# Altium footprint library 开发板设计库封装.PcbLib: 59 footprints (part 2 of 4)
Each footprint in its own frame and in the unit in brackets; x right, y up, seen from the top. Pads: shape width x height; smd on the part's side, far side on the other; paste and mask are expansions set on the pad; w line width, h text height; cw(c..) or ccw(c..) is an arc to the next point about the centre after c.
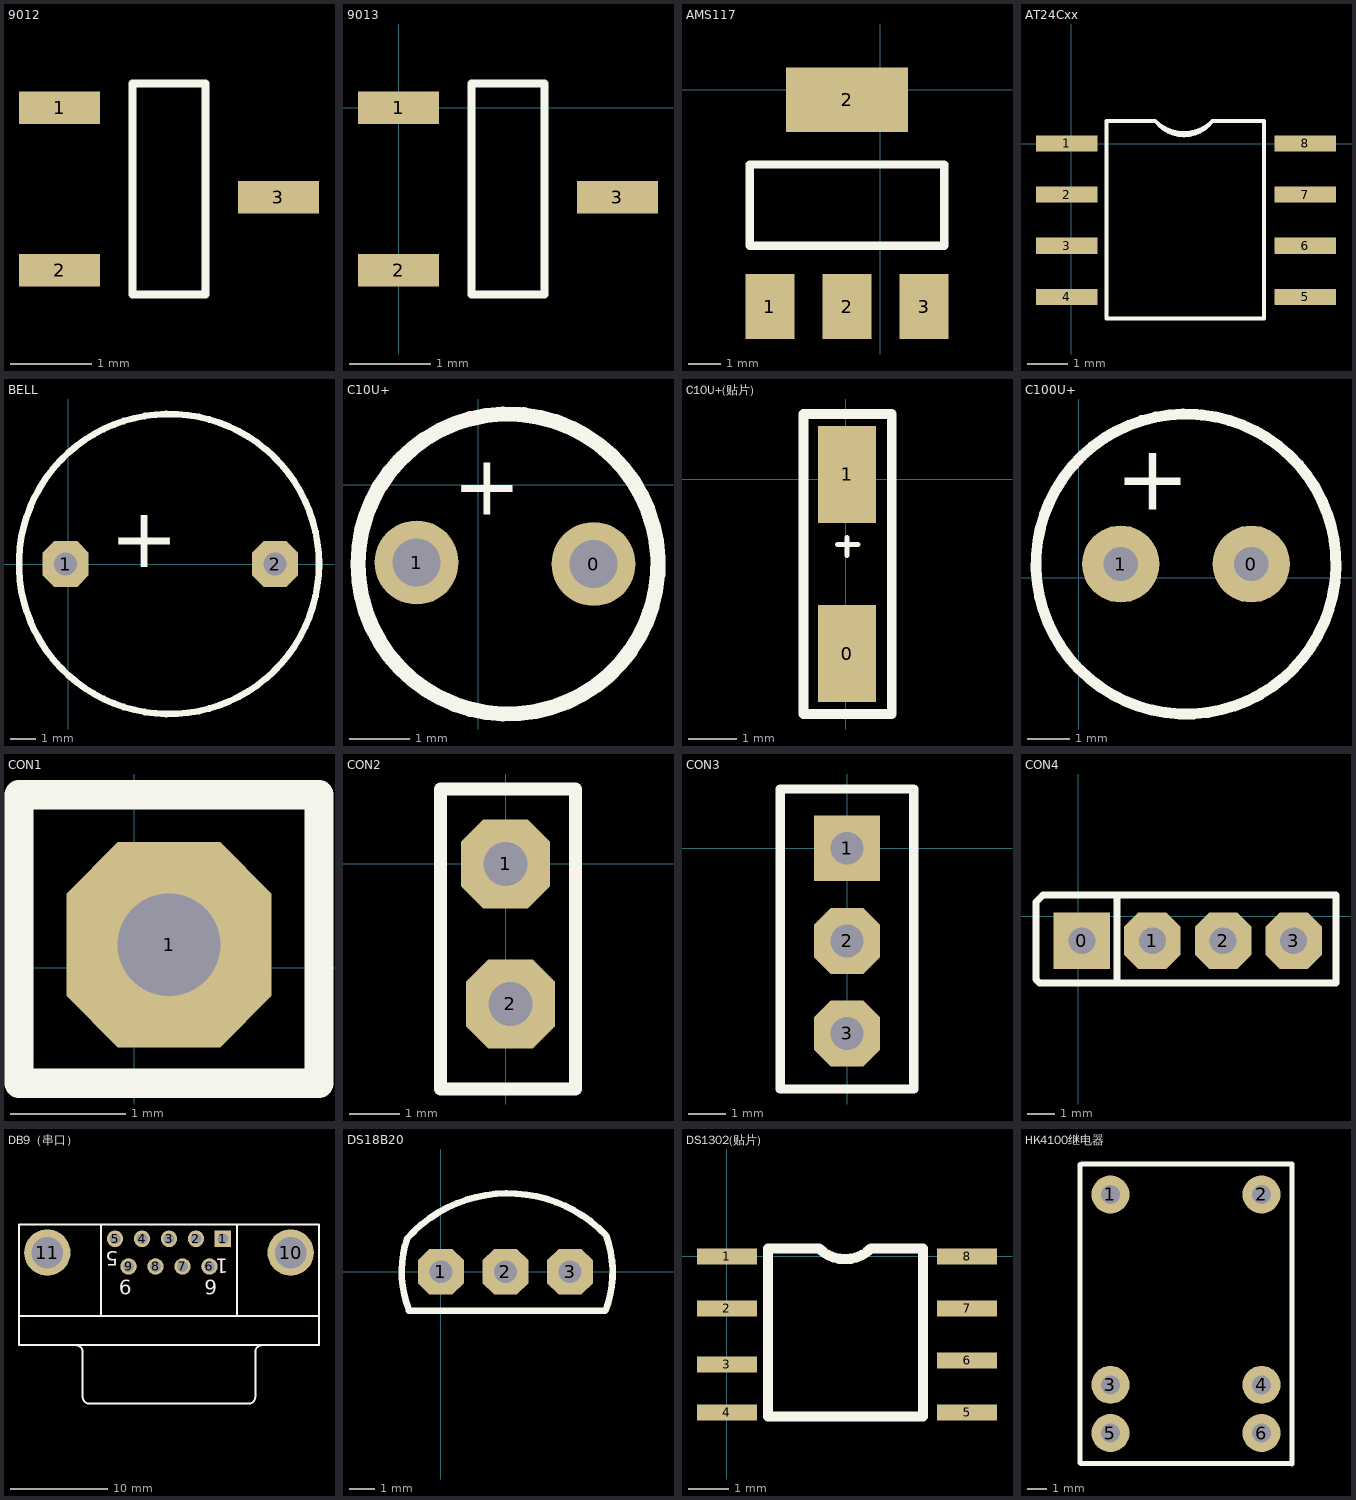
[diagram p1: the footprints below, top view; thin cyan lines are the x and y axes]

## 9012 [mm]
pads (3):
  rect 1x0.4 smd: 1(2.375,120.125) 2(2.375,118.125) 3(5.075,119.025)
Top Overlay:
  lines w0.1: 4.175,117.825 3.275,117.825 3.275,120.425 4.175,120.425 4.175,117.825 ; 4.175,117.825 4.175,117.825

## 9013 [mm]
pads (3):
  rect 1x0.4 smd: 1(0,0) 2(0,-2) 3(2.7,-1.1)
Top Overlay:
  lines w0.1: 1.8,-2.3 0.9,-2.3 0.9,0.3 1.8,0.3 1.8,-2.3 ; 1.8,-2.3 1.8,-2.3

## AMS117 [mil]
pads (4):
  rect 60x80 smd: 1(-136.18,-267.6) 2(-41.18,-267.6) 3(53.82,-267.6)
  rect 150x80 smd: 2(-41.18,-12.6)
Top Overlay:
  lines w10: -161.18,-192.6 -161.18,-92.6 78.82,-92.6 78.82,-192.6 -161.18,-192.6

## AT24Cxx [mm]
pads (8):
  rect 1.524x0.4 smd: 1(-0.113,0.013) 2(-0.113,-1.257) 3(-0.113,-2.527) 4(-0.113,-3.797) 5(5.805,-3.797) 6(5.805,-2.527) 7(5.805,-1.257) 8(5.805,0.013)
Top Overlay:
  lines w0.1: 2.173,0.47 ccw(c2.795,1.092) 3.418,0.47 ; 0.878,-4.328 0.878,0.572 2.071,0.572 ccw(c2.795,1.296) 3.519,0.572 4.778,0.572 4.778,-4.328 0.878,-4.328

## BELL [mil]
pads (2):
  oct 70x70 hole 35: 1(-3.94,0) 2(314.96,0)
Top Overlay:
  circle w10: c153.41,0 r228.48
  text "+" at 62.99,-35.43 h157.48

## C10U+ [mm]
pads (2):
  round 1.4 hole 0.8: 0(1.925,-1.325) 1(-1.025,-1.3)
Top Overlay:
  lines w0.254: 0.684,1.168 ccw(c0.499,-1.325) 0.761,1.161
  text "+" at -0.425,-0.5 h1

## C10U+(贴片) [mm]
pads (2):
  rect 1.2x2 smd: 0(0.025,-3.6) 1(0.025,0.1)
Top Overlay:
  lines w0.1: -0.175,-1.35 0.25,-1.35 ; 0.025,-1.575 0.025,-1.2
  lines w0.2: -0.875,-3.525 -0.875,1.35 -0.344,1.35 0.519,1.35 0.95,1.35 0.95,-4.85 -0.875,-4.85 -0.875,-3.3

## C100U+ [mm]
pads (2):
  round 1.8 hole 0.8: 0(4.023,0.325) 1(0.975,0.325)
Top Overlay:
  lines w0.254: 2.758,3.815 ccw(c2.499,0.325) 2.865,3.806
  text "+" at 0.848,1.595 h1.52

## CON1 [mil]
pads (1):
  oct 70x70 hole 35: 1(11.81,7.87)
Top Overlay:
  lines w10: -39.37,-39.37 -39.37,59.06 62.99,59.06 62.99,-39.37 -39.37,-39.37

## CON2 [mil]
pads (2):
  oct 70x70 hole 35: 1(0,0) 2(3.94,-110.24)
Top Overlay:
  lines w10: 55.12,-177.17 -51.18,-177.17 -51.18,59.06 55.12,59.06 55.12,-177.17 ; 55.12,-177.17 55.12,-177.17

## CON3 [mil]
pads (3):
  rect 70x70 hole 35: 1(0,0)
  oct 70x70 hole 35: 2(0,-98.43) 3(0,-196.85)
Top Overlay:
  lines w10: -70.87,-255.91 -70.87,62.99 70.87,62.99 70.87,-255.91 -70.87,-255.91

## CON4 [mil]
pads (4):
  rect 80x80 hole 38: 0(4.88,-34.61)
  oct 80x80 hole 38: 1(104.88,-34.61) 2(204.88,-34.61) 3(304.88,-34.61)
Top Overlay:
  lines w10: 54.88,-94.61 54.88,30.39 ; -60.12,-89.61 -55.12,-94.61 364.88,-94.61 364.88,30.39 -35.12,30.39 -50.12,30.39 -60.12,20.39 -60.12,-89.61

## DB9（串口） [mm]
pads (11):
  rect 1.69x1.69 hole 1.09: 1(-25.887,-11.195)
  round 1.69 hole 1.09: 2(-28.657,-11.195) 3(-31.427,-11.195) 4(-34.197,-11.195) 5(-36.967,-11.195) 6(-27.272,-14.035) 7(-30.042,-14.035) 8(-32.812,-14.035) 9(-35.582,-14.035)
  round 4.76 hole 3.26: 10(-18.932,-12.615) 11(-43.922,-12.615)
Top Overlay:
  lines w0.2: -46.827,-19.115 -16.027,-19.115 ; -40.987,-22.12 cw(c-40.987,-22.815) -40.292,-22.815 -40.292,-27.415 ; -40.287,-27.42 ccw(c-39.592,-27.42) -39.592,-28.115 -23.262,-28.115 ccw(c-23.262,-27.42) -22.567,-27.42 ; -38.427,-19.115 -38.427,-9.715 ; -24.427,-19.115 -24.427,-9.715 ; -22.562,-27.415 -22.562,-22.815 cw(c-21.867,-22.815) -21.867,-22.12 ; -46.827,-22.115 -16.027,-22.115 -16.027,-9.715 -46.827,-9.715 -46.827,-22.115
  text "6" at -26.474,-15.384 h1.5
  text "9" at -35.237,-15.384 h1.5
  text "5" at -36.634,-12.463 h1.5
  text "1" at -25.331,-13.225 h1.5

## DS18B20 [mil]
pads (3):
  oct 70x70 hole 35: 1(0,0) 2(98.43,0) 3(196.85,0)
Top Overlay:
  lines w10: -48.43,-59.06 250.68,-59.06 ; -48.43,-58.04 cw(c98.43,0) -51.01,51.03 cw(c102.36,-86.61) 251.97,55.12 cw(c97.13,-0.46) 250.68,-59.52

## DS1302(贴片) [mm]
pads (8):
  rect 1.5x0.4 smd mask+0.05: 1(0,0) 2(0,-1.3) 3(0,-2.7) 4(0,-3.9) 5(6,-3.9) 6(6,-2.6) 7(6,-1.3) 8(6,0)
Top Overlay:
  lines w0.254: 4.9,0.2 4.9,-4 1.025,-4 1.025,0.2 2.3,0.2 ccw(c2.95,0.85) 3.6,0.2 4.9,0.2 ; 4.9,0.2 4.9,0.2

## HK4100继电器 [mm]
pads (6):
  round 2 hole 1: 1(16.55,73.45) 2(24.5,73.45) 3(16.55,63.44) 4(24.5,63.44) 5(16.55,60.9) 6(24.5,60.9)
Top Overlay:
  lines w0.254: 14.95,59.325 14.95,75.025 ; 15,59.3 26,59.3 ; 15.05,75.05 26.1,75.05 ; 26.1,59.275 26.1,74.975